# EAGLE library part E?1X08 (library apbteam_con-amp-he14)
Male header simple row, 8 positions
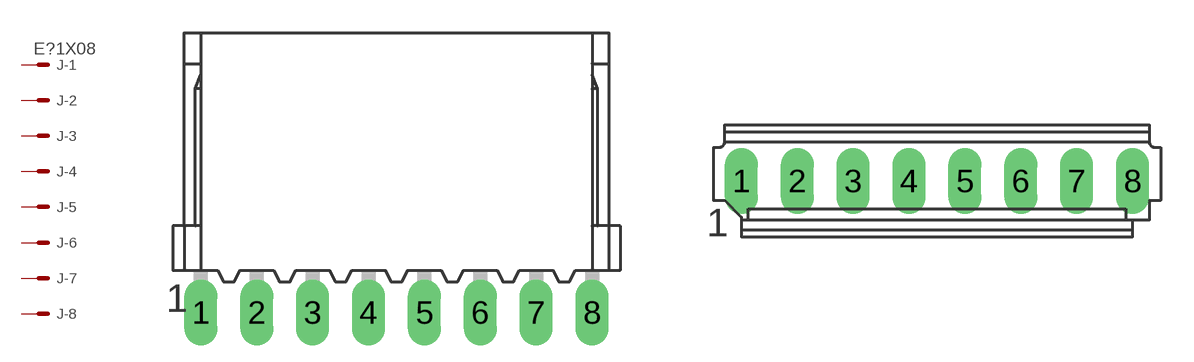
[diagram p2: symbol with the pads of EC1X08; footprints EC1X08, ED1X08]

Designator prefix J; gates -1=MS -2=M -3=M -4=M -5=M -6=M -7=M -8=M

## EC1X08  [EC1X08]
1  -1:S  pas
2  -2:S  pas
3  -3:S  pas
4  -4:S  pas
5  -5:S  pas
6  -6:S  pas
7  -7:S  pas
8  -8:S  pas

## ED1X08  [ED1X08]
Pads as for EC1X08

## Footprint EC1X08 (pad centres in mm)
Male header simple row, 90° exits, 8 positions HE14, tin plated: 0-281 698-8 HE14, gold plated version: 0-142 777-8 HE13, gold plated version: 0-281 699-8
drill 1 long: 1 -8.89,0; 2 -6.35,0; 3 -3.81,0; 4 -1.27,0; 5 1.27,0; 6 3.81,0; 7 6.35,0; 8 8.89,0

## Footprint ED1X08 (pad centres in mm)
Male header simple row, straight exits, 8 positions HE14, tin plated: 0-281 695-8 HE14, gold plated version: 0-142 776-8 HE13, gold plated version: 0-281 696-8
drill 1 long: 1 -8.89,0; 2 -6.35,0; 3 -3.81,0; 4 -1.27,0; 5 1.27,0; 6 3.81,0; 7 6.35,0; 8 8.89,0